# Altium schematic symbol library Pulse.SchLib: 1 symbol
Pins are listed as number, name and electrical type; pins without a type are passive.

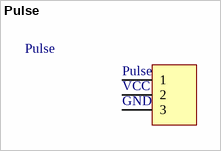
[diagram p0: symbol Pulse]

## Pulse
designator Pulse  (value not drawn)
footprint Pulse
pins: 1, 2, 3
text: VCC; GND